# Altium schematic symbol library SCH - MULTIPLEXER - NEX 74AHC1G66GW.SCHLIB: 1 symbol
Pins are listed as number, name and electrical type; pins without a type are passive.

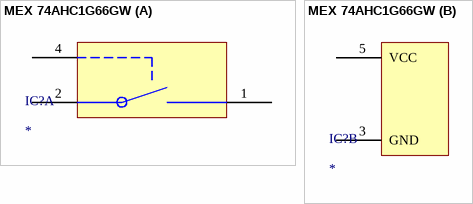
[diagram p0: symbol MEX 74AHC1G66GW]

## MEX 74AHC1G66GW
designator IC?
part A pins: 1 Y, 2 Z, 4 E
part B pins: 3 GND, 5 VCC